# EAGLE library part LTC4359 (library linear)
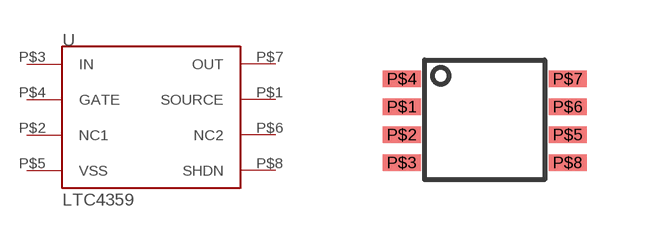
[diagram p316: symbol with the pads of LTC4359; footprint LTC4359]

Designator prefix -

## LTC4359  [LTC4359]
P$1  SOURCE
P$2  NC1
P$3  IN
P$4  GATE
P$5  VSS
P$6  NC2
P$7  OUT
P$8  SHDN

## Footprint LTC4359 (pad centres in mm)
smd 0.95 x 0.42: P$1 -2.075,0.325; P$2 -2.075,-0.375; P$3 -2.075,-1.075; P$4 -2.075,1.025; P$5 2.075,-0.375; P$6 2.075,0.325; P$7 2.075,1.025; P$8 2.075,-1.075